# Altium schematic symbol library IC.SchLib: 16 symbols
Pins are listed as number, name and electrical type; pins without a type are passive.

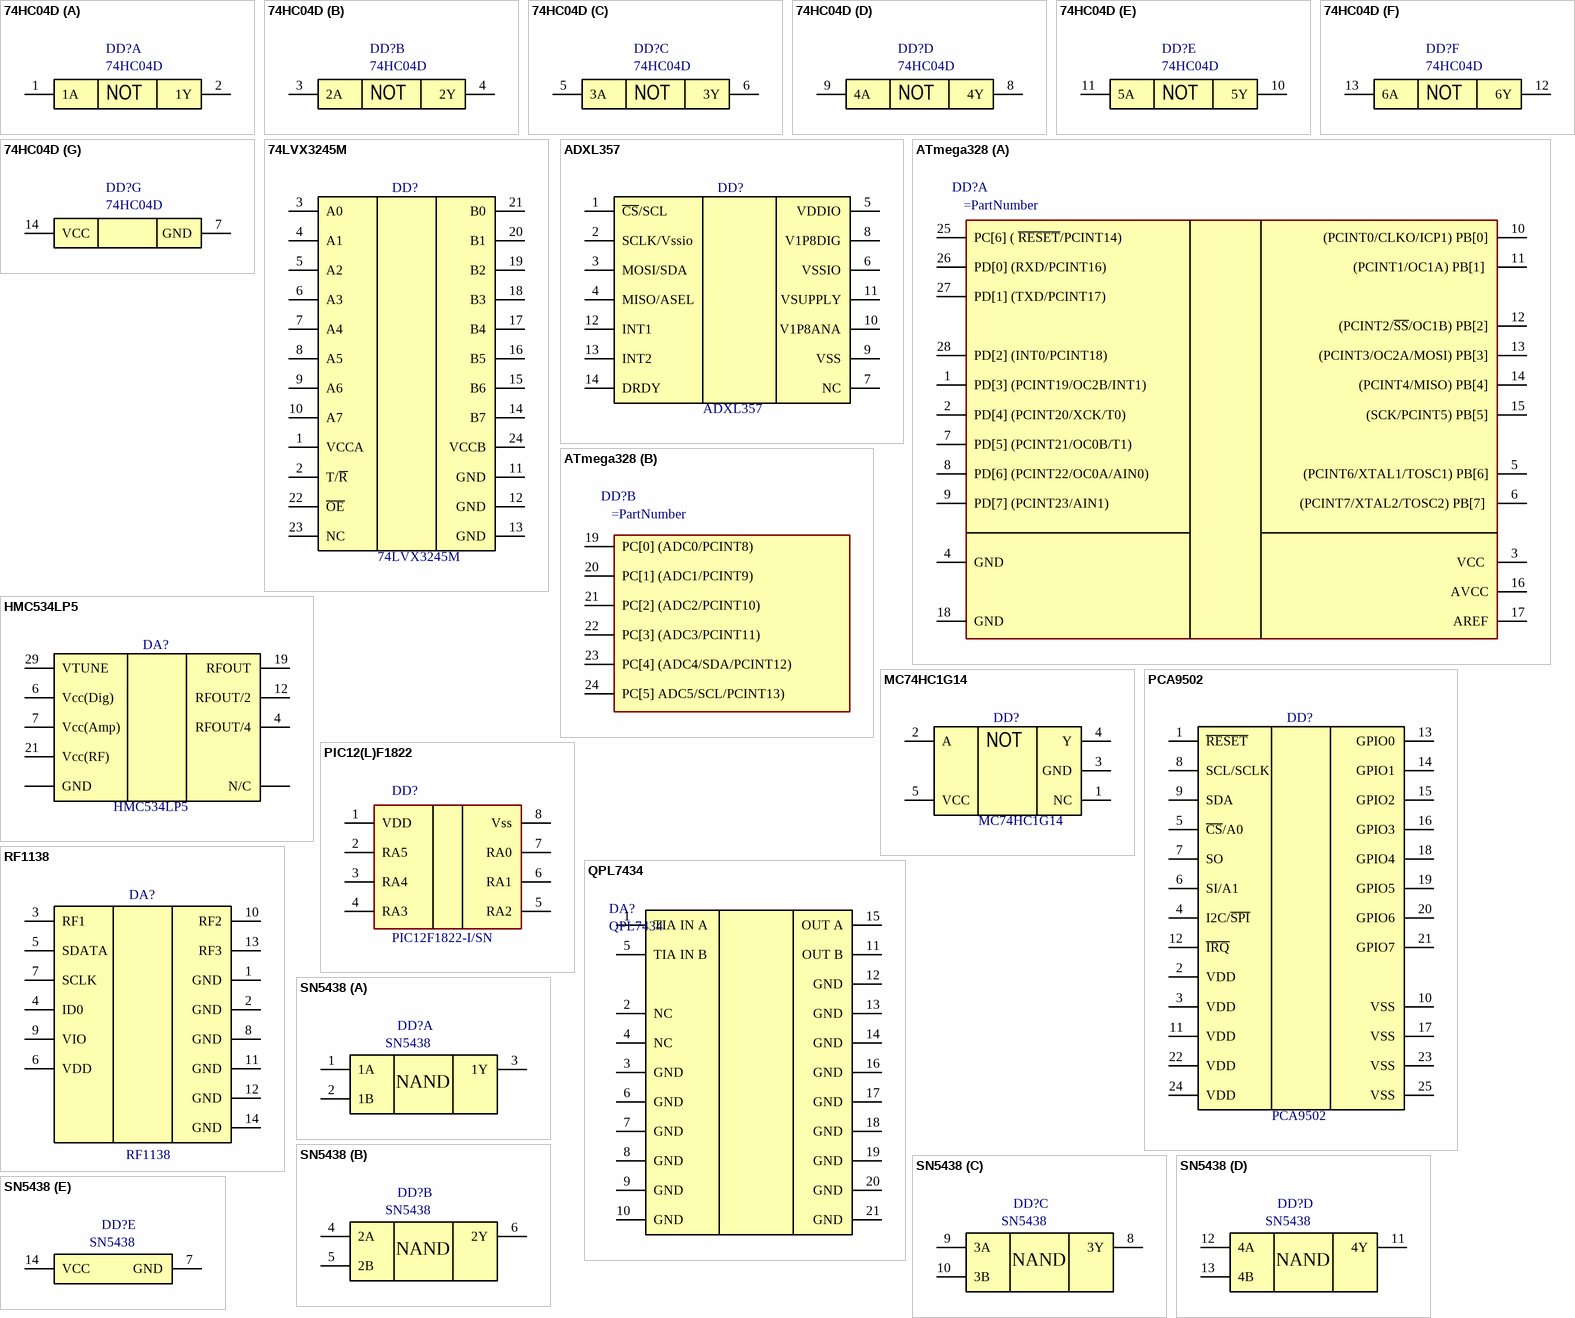
[diagram p0: symbols 74HC04D to SN5438]

## 74HC04D
designator DD?
Hex inverter; Manufacturer: On Semiconductors; PartNumber: 74HC04D; ComponentLink1Description: Digikey Datasheet Link; ComponentLink1URL: https://media.digikey.com/pdf/Data%20Sheets/ON%20Semiconductor%20PDFs/74HC04.pdf
footprint SOIC14P127_865X600X175L70X42N (Small Outline IC (SOIC), 1.27 mm pitch; 14 pin, 8.65 mm L X 3.90 mm W X 1.75 mm H body)
part A pins: 1 1A, 2 1Y
part B pins: 3 2A, 4 2Y
part C pins: 5 3A, 6 3Y
part D pins: 8 4Y, 9 4A
part E pins: 10 5Y, 11 5A
part F pins: 12 6Y, 13 6A
part G pins: 7 GND, 14 VCC
part A text: NOT
part B text: NOT
part C text: NOT
part D text: NOT
part E text: NOT
part F text: NOT

## 74LVX3245M
designator DD?
8-Bit Dual-Supply Translator with 3-State Outputs; PartNumber: 74LVX3245M
footprint SOP24P65_780X640X110L60X24N (Small Outline Pkg (SOP), 0.65 mm pitch; 24 pin, 7.80 mm L X 4.40 mm W X 1.10 mm H body)
pins: 1 VCCA, 2 T/~{R}, 3 A0, 4 A1, 5 A2, 6 A3, 7 A4, 8 A5, 9 A6, 10 A7, 11 GND, 12 GND, 13 GND, 14 B7, 15 B6, 16 B5, 17 B4, 18 B3, 19 B2, 20 B1, 21 B0, 22 ~{OE}, 23 NC, 24 VCCB

## ADXL357
designator DD?
Low Noise, Low Drift, Low Power, 3-Axis MEMS Accelerometers; PartNumber: ADXL357
footprint LCCS14P127_605X605X220L91X50N (Leadless Chip Carrier (LCC), 1.27 mm pitch; square, 4 pin X 3 pin, 6.05 mm L X 6.05 mm W X 2.20 mm H body)
pins: 1 ~{CS}/SCL, 2 SCLK/Vssio, 3 MOSI/SDA, 4 MISO/ASEL, 5 VDDIO, 6 VSSIO, 7 NC, 8 V1P8DIG, 9 VSS, 10 V1P8ANA, 11 VSUPPLY, 12 INT1, 13 INT2, 14 DRDY

## ATmega328
designator DD?
Low  power,  CMOS  8-bit  microcontrollers  based  on  the / AVR ® enhanced RISC architecture
footprint QFN127P600-8N (28-Lead Very Thin Plastic Quad Flat, No Lead Package (RNB) - 4x4x1 mm Body [VQFN] With 2.40mm Exposed Pad; Atmel Legacy GPC ZBV)
part A pins: 1 PD[3] (PCINT19/OC2B/INT1), 2 PD[4] (PCINT20/XCK/T0), 3 VCC , 4 GND, 5 (PCINT6/XTAL1/TOSC1) PB[6], 6 (PCINT7/XTAL2/TOSC2) PB[7] , 7 PD[5] (PCINT21/OC0B/T1) , 8 PD[6] (PCINT22/OC0A/AIN0), 9 PD[7] (PCINT23/AIN1), 10 (PCINT0/CLKO/ICP1) PB[0], 11 (PCINT1/OC1A) PB[1] , 12 (PCINT2/~{SS}/OC1B) PB[2], 13 (PCINT3/OC2A/MOSI) PB[3], 14 (PCINT4/MISO) PB[4], 15 (SCK/PCINT5) PB[5], 16 AVCC, 17 AREF, 18 GND, 25 PC[6] ( ~{RESET}/PCINT14), 26 PD[0] (RXD/PCINT16), 27 PD[1] (TXD/PCINT17), 28 PD[2] (INT0/PCINT18)
part B pins: 19 PC[0] (ADC0/PCINT8), 20 PC[1] (ADC1/PCINT9), 21 PC[2] (ADC2/PCINT10), 22 PC[3] (ADC3/PCINT11), 23 PC[4] (ADC4/SDA/PCINT12), 24 PC[5] ADC5/SCL/PCINT13)

## HMC534LP5
designator DA?
MMIC VCO w/ HALF FREQUENCY OUTPUT / & DIVIDE-BY-4, 10.6 - 11.8 GHz; Manufacturer: Analog Devices; PartNumber: HMC534LP5; ComponentLink1Description: Product Page; ComponentLink1URL: https://www.analog.com/en/products/hmc534.html; ComponentLink2Description: DataSheet; ComponentLink2URL: https://www.analog.com/media/en/technical-documentation/data-sheets/hmc534.pdf
footprint QFN33P50_500X500X100L40X24T380N (Quad Flat No-Lead (QFN with Tab), 0.50 mm pitch; square, 8 pin X 8 pin, 5.00 mm L X 5.00 mm W X 1.00 mm H body)
pins: 1, 2, 3, 8, 9, 10, 13, 14, 15, 16, 17, 18, 20, 22, 23, 24, 25, 26, 27, 28, 30, 31, 32 N/C, 4 RFOUT/4, 5, 11, 33 GND, 6 Vcc(Dig), 7 Vcc(Amp), 12 RFOUT/2, 19 RFOUT, 21 Vcc(RF), 29 VTUNE

## MC74HC1G14
designator DD?
Single Inverter with  Schmitt-Trigger Input; PartNumber: MC74HC1G14
footprint SOT23-5P65_210X110L20X20N (Small Outline Transistor (SOT23), 0.65 mm pitch; 5 pin, 2.00 mm L X 1.25 mm W X 1.10 mm H body)
pins: 1 NC, 2 A, 3 GND, 4 Y, 5 VCC
text: NOT

## PCA9502
designator DD?
8-bit I/O expander with I2C-bus/SPI interface; PartNumber: PCA9502
footprint QFN25P50_400X400X100L40X24T260N (Quad Flat No-Lead (QFN with Tab), 0.50 mm pitch; square, 6 pin X 6 pin, 4.00 mm L X 4.00 mm W X 1.00 mm H body)
pins: 1 ~{RESET}, 2 VDD, 3 VDD, 4 I2C/~{SPI}, 5 ~{CS}/A0, 6 SI/A1, 7 SO, 8 SCL/SCLK, 9 SDA, 10 VSS, 11 VDD, 12 ~{IRQ}, 13 GPIO0, 14 GPIO1, 15 GPIO2, 16 GPIO3, 17 VSS, 18 GPIO4, 19 GPIO5, 20 GPIO6, 21 GPIO7, 22 VDD, 23 VSS, 24 VDD, 25 VSS

## PIC12(L)F1822
designator DD?, comment PIC12F1822-I/SN
8-bit Flash Microcontrollers with XLP Technology 3.5 KB, 128 B; PartNumber: PIC12F1822-I/SN
footprint SN-SOIC127P600X175-8N (SOIC, 8-Leads, Body 4.90x3.90mm, Pitch 1.27mm, IPC Medium Density)
pins: 1 VDD, 2 RA5, 3 RA4, 4 RA3, 5 RA2, 6 RA1, 7 RA0, 8 Vss

## QPL7434
designator DA?
xPON Video Receiver; Manufacturer: Qorvo; PartNumber: QPL7434; ComponentLink1Description: Site Link; ComponentLink1URL: https://www.qorvo.com/products/p/QPL7434
footprint QFN21P50_400X400X90L55X23T215N (Quad Flat No-Lead (QFN with Tab), 0.50 mm pitch; square, 5 pin X 5 pin, 4.00 mm L X 4.00 mm W X 0.90 mm H body)
pins: 1 TIA IN A, 2 NC, 3 GND, 4 NC, 5 TIA IN B, 6 GND, 7 GND, 8 GND, 9 GND, 10 GND, 11 OUT B, 12 GND, 13 GND, 14 GND, 15 OUT A, 16 GND, 17 GND, 18 GND, 19 GND, 20 GND, 21 GND

## RF1138
designator DA?
5 bit Tunable Capacitor with Switch; PartNumber: RF1138
footprint WLCSP14RCP40_4X5_158X198X60B26N (WLCSP, 0.40 mm pitch, rect.; 14 pin, 1.58 mm L X 1.98 mm W X 0.602 mm H body (w/reversed pins))
pins: 1 GND, 2 GND, 3 RF1, 4 ID0, 5 SDATA, 6 VDD, 7 SCLK, 8 GND, 9 VIO, 10 RF2, 11 GND, 12 GND, 13 RF3, 14 GND

## SN5438
designator DD?
QUADRUPLE 2-INPUT POSITIVE-NAND BUFFERS WITH OPEN-COLLECTOR OUTPUTS; PartNumber: SN5438
footprint SOIC14P127_865X600X175L83X41N (Small Outline IC (SOIC), 1.27 mm pitch; 14 pin, 8.65 mm L X 3.90 mm W X 1.75 mm H body)
part A pins: 1 1A, 2 1B, 3 1Y
part B pins: 4 2A, 5 2B, 6 2Y
part C pins: 8 3Y, 9 3A, 10 3B
part D pins: 11 4Y, 12 4A, 13 4B
part E pins: 7 GND, 14 VCC
part A text: NAND
part B text: NAND
part C text: NAND
part D text: NAND

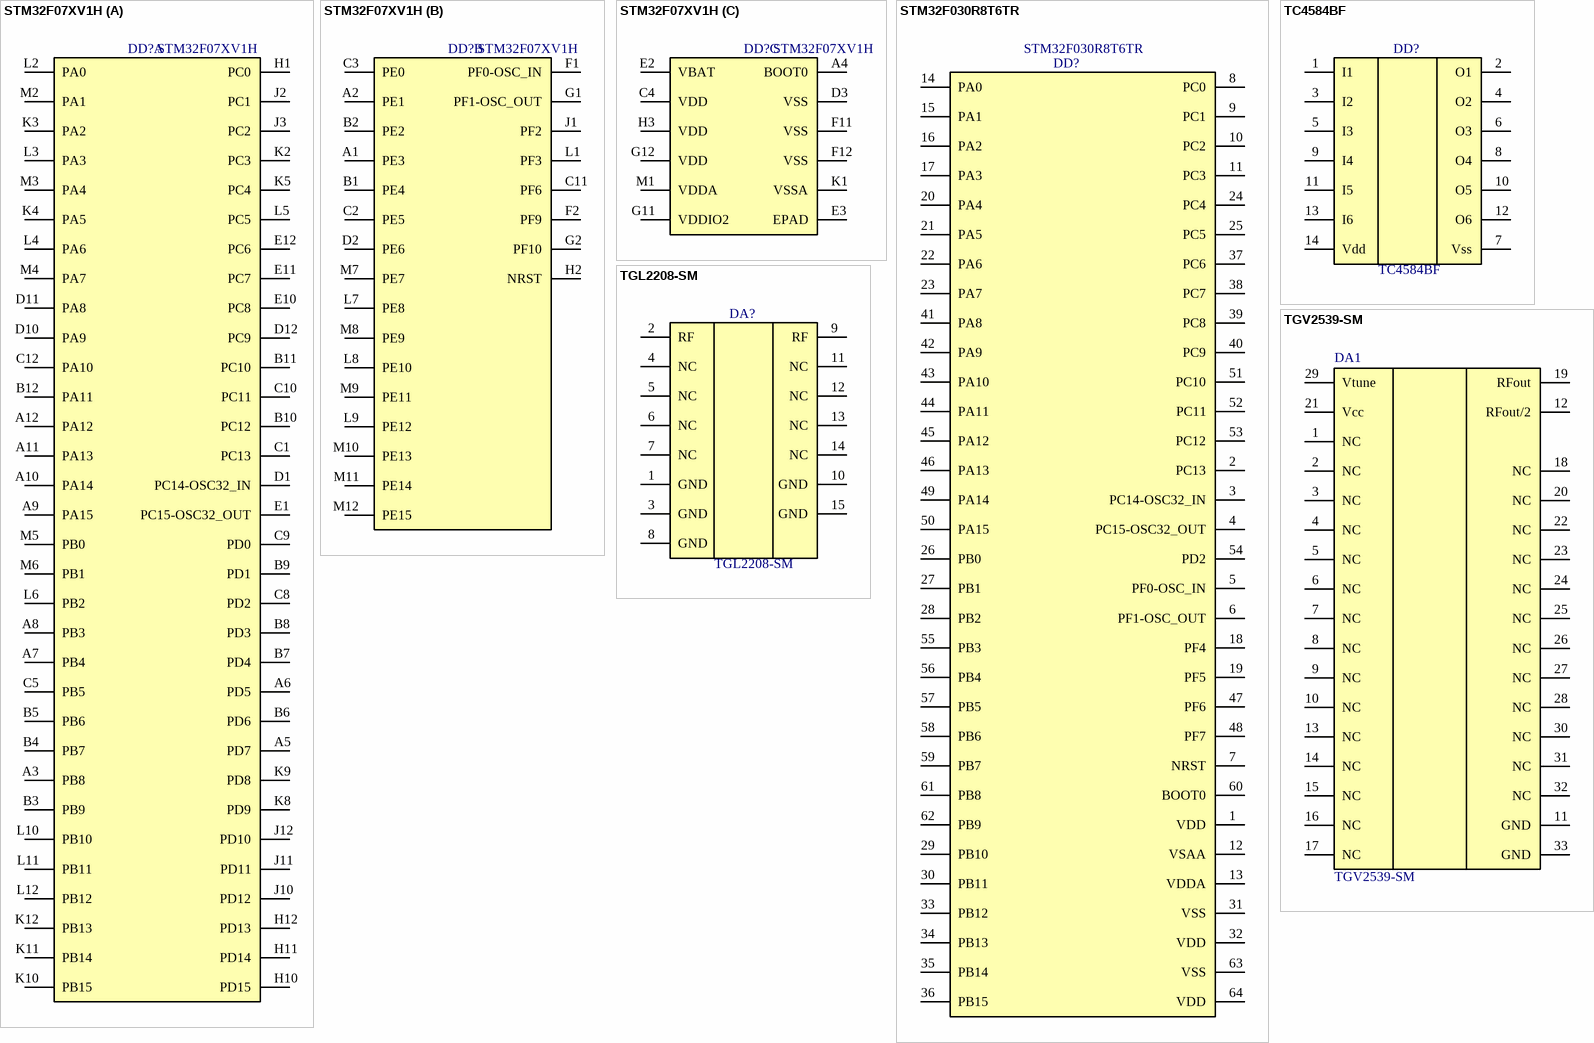
[diagram p1: symbols STM32F07XV1H to TGV2539-SM]

## STM32F07XV1H
designator DD?
Mainstream ARM Cortex-M0 USB line MCU with 128 Kbytes Flash, 48 MHz CPU, USB, CAN and CEC functions; Manufactorer: STMicroelectronics; PartNumber: STM32F07XV1H
footprint UFBGA100-7x7mm
part A pins: A3 PB8, A5 PD7, A6 PD5, A7 PB4, A8 PB3, A9 PA15, A10 PA14, A11 PA13, A12 PA12, B3 PB9, B4 PB7, B5 PB6, B6 PD6, B7 PD4, B8 PD3, B9 PD1, B10 PC12, B11 PC10, B12 PA11, C1 PC13, C5 PB5, C8 PD2, C9 PD0, C10 PC11, C12 PA10, D1 PC14-OSC32_IN, D10 PA9, D11 PA8, D12 PC9, E1 PC15-OSC32_OUT, E10 PC8, E11 PC7, E12 PC6, H1 PC0, H10 PD15, H11 PD14, H12 PD13, J2 PC1, J3 PC2, J10 PD12, J11 PD11, J12 PD10, K2 PC3, K3 PA2, K4 PA5, K5 PC4, K8 PD9, K9 PD8, K10 PB15, K11 PB14, K12 PB13, L2 PA0, L3 PA3, L4 PA6, L5 PC5, L6 PB2, L10 PB10, L11 PB11, L12 PB12, M2 PA1, M3 PA4, M4 PA7, M5 PB0, M6 PB1
part B pins: A1 PE3, A2 PE1, B1 PE4, B2 PE2, C2 PE5, C3 PE0, C11 PF6, D2 PE6, F1 PF0-OSC_IN, F2 PF9, G1 PF1-OSC_OUT, G2 PF10, H2 NRST, J1 PF2, L1 PF3, L7 PE8, L8 PE10, L9 PE12, M7 PE7, M8 PE9, M9 PE11, M10 PE13, M11 PE14, M12 PE15
part C pins: A4 BOOT0, C4 VDD, D3 VSS, E2 VBAT, E3 EPAD, F11 VSS, F12 VSS, G11 VDDIO2, G12 VDD, H3 VDD, K1 VSSA, M1 VDDA

## STM32F030R8T6TR
designator DD?
Value-line Arm®-based 32-bit MCU with up to 256 KB Flash, timers, / ADC, communication interfaces, 2.4-3.6 V operation; PartNumber: STM32F030R8T6TR
footprint QFP64P50_1200X1200X160L60X19N (Quad Flat Pack (QFP), 0.50 mm pitch; square, 16 pin X 16 pin, 10.00 mm L X 10.00 mm W X 1.60 mm H body)
pins: 1 VDD, 2 PC13, 3 PC14-OSC32_IN, 4 PC15-OSC32_OUT, 5 PF0-OSC_IN, 6 PF1-OSC_OUT, 7 NRST, 8 PC0, 9 PC1, 10 PC2, 11 PC3, 12 VSAA, 13 VDDA, 14 PA0, 15 PA1, 16 PA2, 17 PA3, 18 PF4, 19 PF5, 20 PA4, 21 PA5, 22 PA6, 23 PA7, 24 PC4, 25 PC5, 26 PB0, 27 PB1, 28 PB2, 29 PB10, 30 PB11, 31 VSS, 32 VDD, 33 PB12, 34 PB13, 35 PB14, 36 PB15, 37 PC6, 38 PC7, 39 PC8, 40 PC9, 41 PA8, 42 PA9, 43 PA10, 44 PA11, 45 PA12, 46 PA13, 47 PF6, 48 PF7, 49 PA14, 50 PA15, 51 PC10, 52 PC11, 53 PC12, 54 PD2, 55 PB3, 56 PB4, 57 PB5, 58 PB6, 59 PB7, 60 BOOT0, 61 PB8, 62 PB9, 63 VSS, 64 VDD

## TC4584BF
designator DD?
TC4584B Hex Schmitt Trigger 6 chanel; PartNumber: TC4584BF
footprint SOIC14P127_1080X780X190L80X44N (Small Outline IC (SOIC), 1.27 mm pitch; 14 pin, 10.80 mm L X 5.30 mm W X 1.90 mm H body)
pins: 1 I1, 2 O1, 3 I2, 4 O2, 5 I3, 6 O3, 7 Vss, 8 O4, 9 I4, 10 O5, 11 I5, 12 O6, 13 I6, 14 Vdd

## TGL2208-SM
designator DA?
2-20 GHz Dual Stage VPIN Limiter; PartNumber: TGL2208-SM
footprint TGL2208-SM (Qorvo TGL2208-SM)
pins: 1 GND, 2 RF, 3 GND, 4 NC, 5 NC, 6 NC, 7 NC, 8 GND, 9 RF, 10 GND, 11 NC, 12 NC, 13 NC, 14 NC, 15 GND

## TGV2539-SM
designator DA1
10.7 – 11.5 GHz VCO with Divide by 2; PartNumber: TGV2539-SM
footprint QFN33P50_500X500X90L40X25T370N (Quad Flat No-Lead (QFN with Tab), 0.50 mm pitch; square, 8 pin X 8 pin, 5.00 mm L X 5.00 mm W X 0.90 mm H body)
pins: 1 NC, 2 NC, 3 NC, 4 NC, 5 NC, 6 NC, 7 NC, 8 NC, 9 NC, 10 NC, 11 GND, 12 RFout/2, 13 NC, 14 NC, 15 NC, 16 NC, 17 NC, 18 NC, 19 RFout, 20 NC, 21 Vcc, 22 NC, 23 NC, 24 NC, 25 NC, 26 NC, 27 NC, 28 NC, 29 Vtune, 30 NC, 31 NC, 32 NC, 33 GND